# Altium footprint library ANT_868MHZ_W3013.PcbLib: 1 footprints
Each footprint in its own frame and in the unit in brackets; x right, y up, seen from the top. Pads: shape width x height; smd on the part's side, far side on the other; paste and mask are expansions set on the pad; w line width, h text height; cw(c..) or ccw(c..) is an arc to the next point about the centre after c.
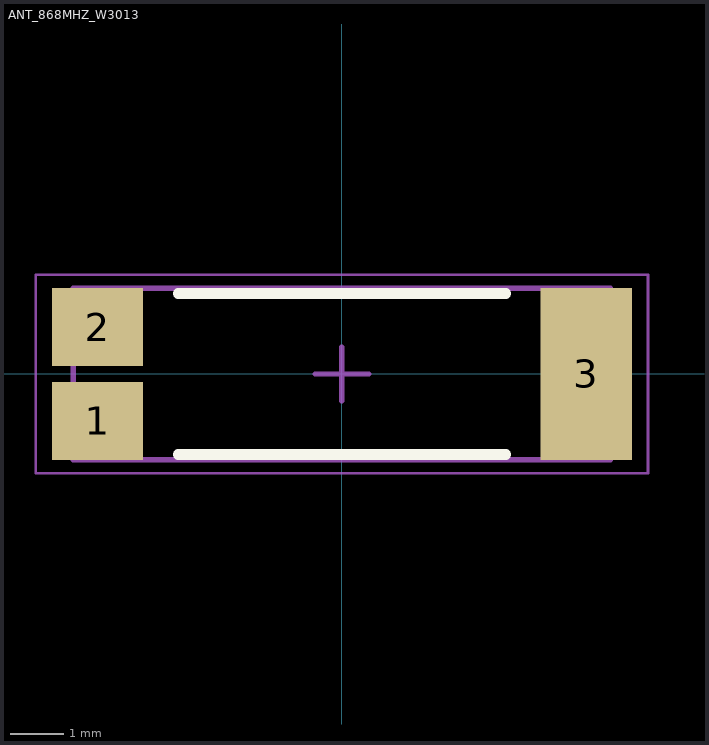
[diagram p0: the footprint, top view; thin cyan lines are the x and y axes]

## ANT_868MHZ_W3013 [mm]
height 4
pads (3):
  rect 1.7x1.45 smd: 1(-4.55,-0.875) 2(-4.55,0.875)
  rect 1.7x3.2 smd: 3(4.55,0)
Top Overlay:
  lines w0.2: -3.05,-1.5 3.05,-1.5 ; -3.05,1.5 3.05,1.5
Mechanical 13:
  lines w0.1: -5,-1.6 -5,1.6 5,1.6 5,-1.6 -5,-1.6
Mechanical 15:
  lines w0.05: -5.7,-1.85 -5.7,1.85 5.7,1.85 5.7,-1.85 -5.7,-1.85
  lines w0.1: -0.5,0 0.5,0 ; 0,-0.5 0,0.5
3D body: height 4, standoff 0, extent -3.5,-1.6 3.5,1.6
3D body: height 4, standoff 0, extent -5,-1.6 -3.5,1.6
3D body: height 4, standoff 0, extent 3.5,-1.6 5,1.6